# EAGLE library part ERM8-049-XX.X-X-DV (library con-samtec-er8)
ERM8 Series - Male
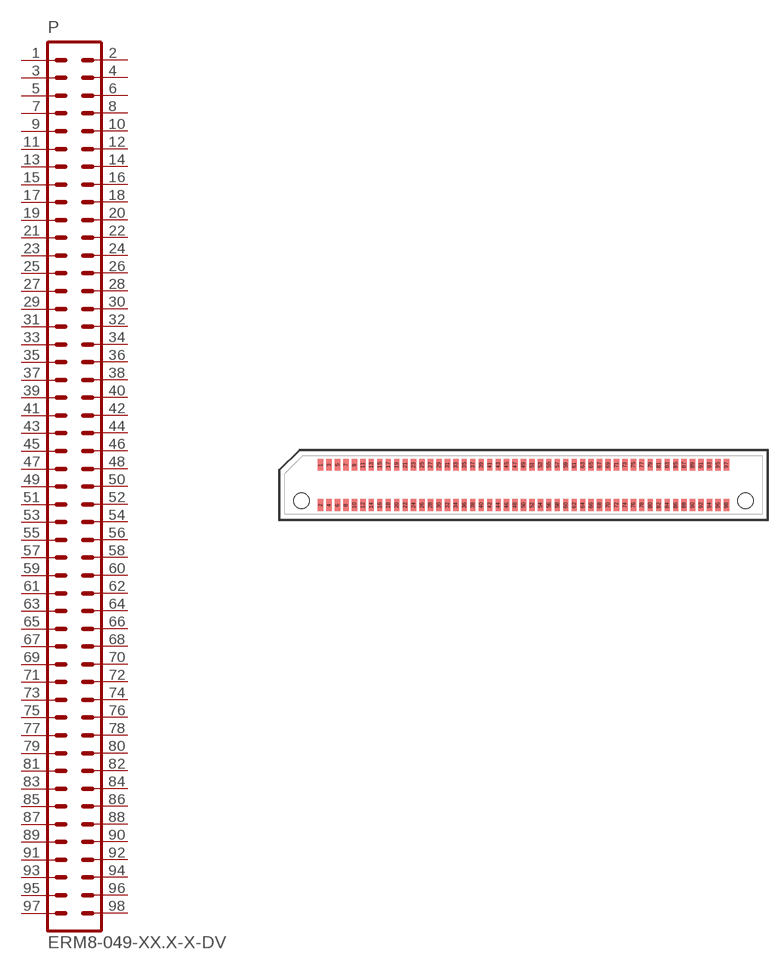
[diagram p2: symbol with the pads of ERM8-049-XX.X-X-DV; footprint ERM8-049-XX.X-X-DV]

Designator prefix P

## ERM8-049-XX.X-X-DV  [ERM8-049-XX.X-X-DV]
1  1  pas
2  2  pas
3  3  pas
4  4  pas
5  5  pas
6  6  pas
7  7  pas
8  8  pas
9  9  pas
10  10  pas
11  11  pas
12  12  pas
13  13  pas
14  14  pas
15  15  pas
16  16  pas
17  17  pas
18  18  pas
19  19  pas
20  20  pas
21  21  pas
22  22  pas
23  23  pas
24  24  pas
25  25  pas
26  26  pas
27  27  pas
28  28  pas
29  29  pas
30  30  pas
31  31  pas
32  32  pas
33  33  pas
34  34  pas
35  35  pas
36  36  pas
37  37  pas
38  38  pas
39  39  pas
40  40  pas
41  41  pas
42  42  pas
43  43  pas
44  44  pas
45  45  pas
46  46  pas
47  47  pas
48  48  pas
49  49  pas
50  50  pas
51  51  pas
52  52  pas
53  53  pas
54  54  pas
55  55  pas
56  56  pas
57  57  pas
58  58  pas
59  59  pas
60  60  pas
61  61  pas
62  62  pas
63  63  pas
64  64  pas
65  65  pas
66  66  pas
67  67  pas
68  68  pas
69  69  pas
70  70  pas
71  71  pas
72  72  pas
73  73  pas
74  74  pas
75  75  pas
76  76  pas
77  77  pas
78  78  pas
79  79  pas
80  80  pas
81  81  pas
82  82  pas
83  83  pas
84  84  pas
85  85  pas
86  86  pas
87  87  pas
88  88  pas
89  89  pas
90  90  pas
91  91  pas
92  92  pas
93  93  pas
94  94  pas
95  95  pas
96  96  pas
97  97  pas
98  98  pas

## Footprint ERM8-049-XX.X-X-DV (pad centres in mm)
0.8mm Edge Rate Terminal Assembly MALE, Double Vertical Row, 49 Position
smd 0.5 x 1.1: 1 -19.2,1.9; 2 -19.2,-1.9; 3 -18.4,1.9; 4 -18.4,-1.9; 5 -17.6,1.9; 6 -17.6,-1.9; 7 -16.8,1.9; 8 -16.8,-1.9; 9 -16,1.9; 10 -16,-1.9; 11 -15.2,1.9; 12 -15.2,-1.9; 13 -14.4,1.9; 14 -14.4,-1.9; 15 -13.6,1.9; 16 -13.6,-1.9; 17 -12.8,1.9; 18 -12.8,-1.9; 19 -12,1.9; 20 -12,-1.9; 21 -11.2,1.9; 22 -11.2,-1.9; 23 -10.4,1.9; 24 -10.4,-1.9; 25 -9.6,1.9; 26 -9.6,-1.9; 27 -8.8,1.9; 28 -8.8,-1.9; 29 -8,1.9; 30 -8,-1.9; 31 -7.2,1.9; 32 -7.2,-1.9; 33 -6.4,1.9; 34 -6.4,-1.9; 35 -5.6,1.9; 36 -5.6,-1.9; 37 -4.8,1.9; 38 -4.8,-1.9; 39 -4,1.9; 40 -4,-1.9; 41 -3.2,1.9; 42 -3.2,-1.9; 43 -2.4,1.9; 44 -2.4,-1.9; 45 -1.6,1.9; 46 -1.6,-1.9; 47 -0.8,1.9; 48 -0.8,-1.9; 49 0,1.9; 50 0,-1.9; 51 0.8,1.9; 52 0.8,-1.9; 53 1.6,1.9; 54 1.6,-1.9; 55 2.4,1.9; 56 2.4,-1.9; 57 3.2,1.9; 58 3.2,-1.9; 59 4,1.9; 60 4,-1.9; 61 4.8,1.9; 62 4.8,-1.9; 63 5.6,1.9; 64 5.6,-1.9; 65 6.4,1.9; 66 6.4,-1.9; 67 7.2,1.9; 68 7.2,-1.9; 69 8,1.9; 70 8,-1.9; 71 8.8,1.9; 72 8.8,-1.9; 73 9.6,1.9; 74 9.6,-1.9; 75 10.4,1.9; 76 10.4,-1.9; 77 11.2,1.9; 78 11.2,-1.9; 79 12,1.9; 80 12,-1.9; 81 12.8,1.9; 82 12.8,-1.9; 83 13.6,1.9; 84 13.6,-1.9; 85 14.4,1.9; 86 14.4,-1.9; 87 15.2,1.9; 88 15.2,-1.9; 89 16,1.9; 90 16,-1.9; 91 16.8,1.9; 92 16.8,-1.9; 93 17.6,1.9; 94 17.6,-1.9; 95 18.4,1.9; 96 18.4,-1.9; 97 19.2,1.9; 98 19.2,-1.9
hole 1.45 at -21,-1.5
hole 1.45 at 21,-1.5